# Altium schematic symbol library M20-7821042.SchLib: 1 symbol
Pins are listed as number, name and electrical type; pins without a type are passive.

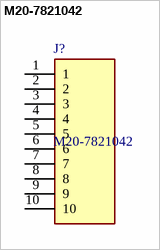
[diagram p0: symbol M20-7821042]

## M20-7821042
designator J?
2.54mm (0.1") Pitch SIL Vertical Throughboard Socket Assembly, selective gold + tin, 10 contacts; Manufacturer_Name: Harwin; Geometry.Height: 8.65mm; Manufacturer_Part_Number: M20-7821042; Mouser Part Number: 855-M20-7821042; Mouser Price/Stock: https://www.mouser.co.uk/ProductDetail/Harwin/M20-7821042?qs=Jph8NoUxIfUg6RlpQXBvqA%3D%3D; Arrow Part Number: *; Arrow Price/Stock: *; Datasheet Link: https://cdn.harwin.com/pdfs/M20-782.pdf
footprint SHDR10W70P0X254_1X10_2580X250X865P
pins: 1, 2, 3, 4, 5, 6, 7, 8, 9, 10